# Altium schematic symbol library 0805_resistor.SchLib: 1 symbol
Pins are listed as number, name and electrical type; pins without a type are passive.

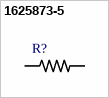
[diagram p0: symbol 1625873-5]

## 1625873-5
designator R?  (value not drawn)
RS 0805 RESISTOR KIT; MF: TE Connectivity; Price: None; MP: 1625873-5; Availability: Unavailable; SnapEDA_Link: https://www.snapeda.com/parts/1625873-5/TE%20Connectivity/view-part/?ref=snap; EU_RoHS_Compliance: Compliant with Exemptions; TE_purchase_URL: https://www.te.com/usa-en/product-1625873-5.html?te_bu=Cor&te_type=disp&te_campaign=seda_glo_cor-seda-global-disp-prtnr-fy19-seda-model-bom-cta_sma-317_1&elqCampaignId=32493; Package: 0805; Value: *
footprint RESC2012X65N
pins: 1, 2